# Altium schematic symbol library MOSFET N-channel.SchLib: 2 symbols
Pins are listed as number, name and electrical type; pins without a type are passive.

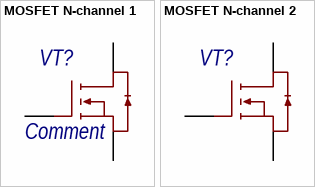
[diagram p0: symbols MOSFET N-channel 1 to MOSFET N-channel 2]

## MOSFET N-channel 1
designator VT?, comment Comment
N-канальный MOSFET
pins: 1, 2, 3

## MOSFET N-channel 2
designator VT?
N-канальный MOSFET
pins: 1, 2, 3